# Altium schematic symbol library Modulo de apertura.SchLib: 17 symbols
Pins are listed as number, name and electrical type; pins without a type are passive.

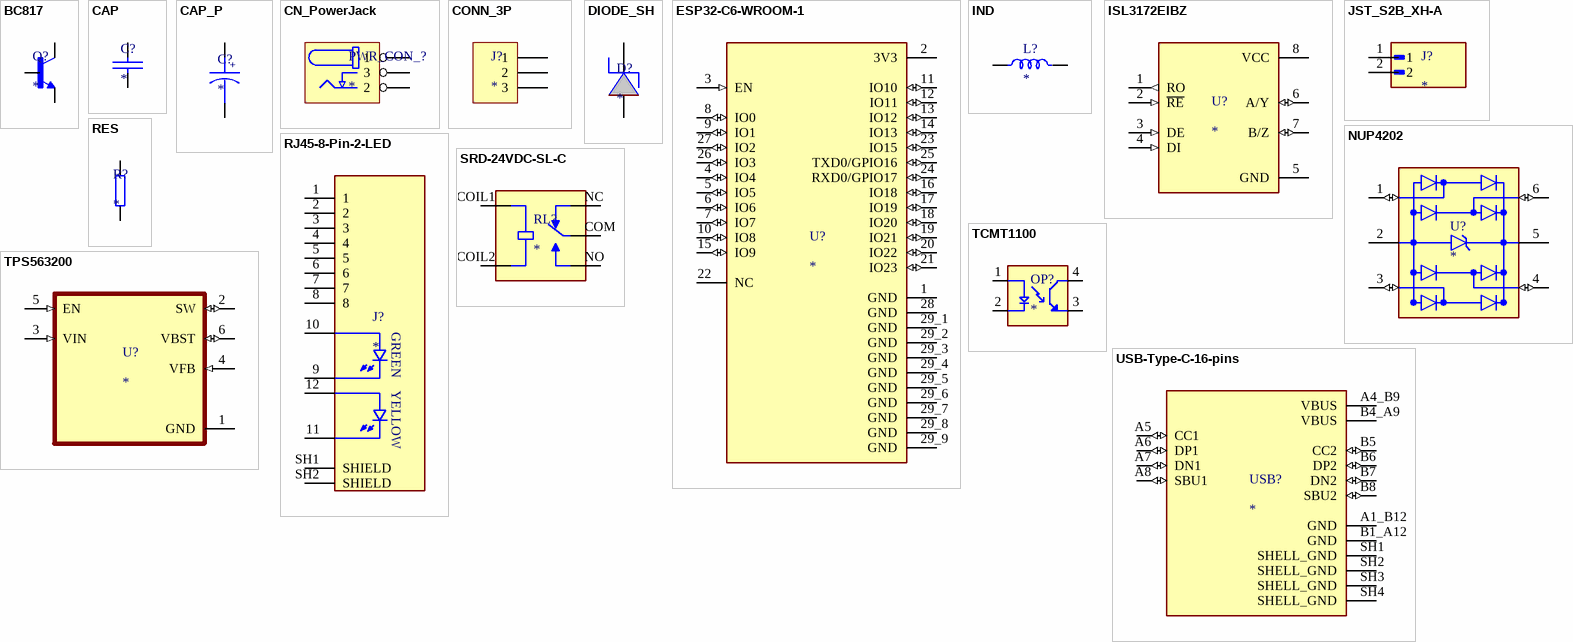
[diagram p0: symbols BC817 to USB-Type-C-16-pins]

## BC817
designator Q?
footprint SOT-23-3
pins: 1 B, 2 E, 3 C

## CAP
designator C?
footprint C_0402
footprint C_0603
pins: 1, 2

## CAP_P
designator C?
footprint C_P_1210
pins: 1, 2
text: +

## CN_PowerJack
designator PWR_CON_?
footprint PJ002B
pins: 1, 2, 3

## CONN_3P
designator J?
footprint BORNERA_3P_P_5mm
pins: 1, 2, 3

## DIODE_SH
designator D?
footprint D_SMA
pins: 1 A, 2 K

## ESP32-C6-WROOM-1
designator U?
footprint ESP32-C6-WROOM-1
pins: 1 GND (power), 2 3V3 (power), 3 EN (in), 4 IO4 (io), 5 IO5 (io), 6 IO6 (io), 7 IO7 (io), 8 IO0 (io), 9 IO1 (io), 10 IO8 (io), 11 IO10 (io), 12 IO11 (io), 13 IO12 (io), 14 IO13 (io), 15 IO9 (io), 16 IO18 (io), 17 IO19 (io), 18 IO20 (io), 19 IO21 (io), 20 IO22 (io), 21 IO23 (io), 22 NC, 23 IO15 (io), 24 RXD0/GPIO17 (io), 25 TXD0/GPIO16 (io), 26 IO3 (io), 27 IO2 (io), 28 GND (power), 29_1 GND (power), 29_2 GND (power), 29_3 GND (power), 29_4 GND (power), 29_5 GND (power), 29_6 GND (power), 29_7 GND (power), 29_8 GND (power), 29_9 GND (power)

## IND
designator L?
footprint IFSC1515AH
pins: 1, 2

## ISL3172EIBZ
designator U?
Transceiver Half RS422, RS485 8-SOIC
footprint SOIC-8
pins: 1 RO (out), 2 ~{RE} (in), 3 DE (in), 4 DI (in), 5 GND (power), 6 A/Y (io), 7 B/Z (io), 8 VCC (power)

## JST_S2B_XH-A
designator J?
footprint JST_S2B-XH-A
pins: 1, 2

## NUP4202
designator U?
footprint SOT-363
pins: 1 IO1 (io), 2 GND (power), 3 IO2 (io), 4 IO3 (io), 5 VDD (power), 6 IO4 (io)

## RES
designator R?
footprint R_0402
pins: 1, 2

## RJ45-8-Pin-2-LED
designator J?
footprint RJ45-8-Pin-2-Led
pins: 1, 2, 3, 4, 5, 6, 7, 8, 9, 10, 11, 12, SH1 SHIELD, SH2 SHIELD
text: GREEN; YELLOW

## SRD-24VDC-SL-C
designator RL?
footprint RELAY_SRD-24VDC-SL-C
pins: COIL1, COIL2, COM, NC, NO

## TCMT1100
designator OP?
footprint SSOP4
pins: 1 A, 2 C, 3 ET, 4 CT

## TPS563200
designator U?
footprint SOT-95
footprint SOT-23-6
pins: 1 GND (power), 2 SW (io), 3 VIN (in), 4 VFB (in), 5 EN (in), 6 VBST (io)

## USB-Type-C-16-pins
designator USB?
footprint PCBComponent_1
footprint GCT_USB4105GFA120
pins: A1_B12 GND (power), A4_B9 VBUS (power), A5 CC1 (io), A6 DP1 (io), A7 DN1 (io), A8 SBU1 (io), B1_A12 GND (power), B4_A9 VBUS (power), B5 CC2 (io), B6 DP2 (io), B7 DN2 (io), B8 SBU2 (io), SH1 SHELL_GND (power), SH2 SHELL_GND (power), SH3 SHELL_GND (power), SH4 SHELL_GND (power)